# Altium footprint library Connector_Dsub.PcbLib: 104 footprints (part 4 of 7)
Each footprint in its own frame and in the unit in brackets; x right, y up, seen from the top. Pads: shape width x height; smd on the part's side, far side on the other; paste and mask are expansions set on the pad; w line width, h text height; cw(c..) or ccw(c..) is an arc to the next point about the centre after c.
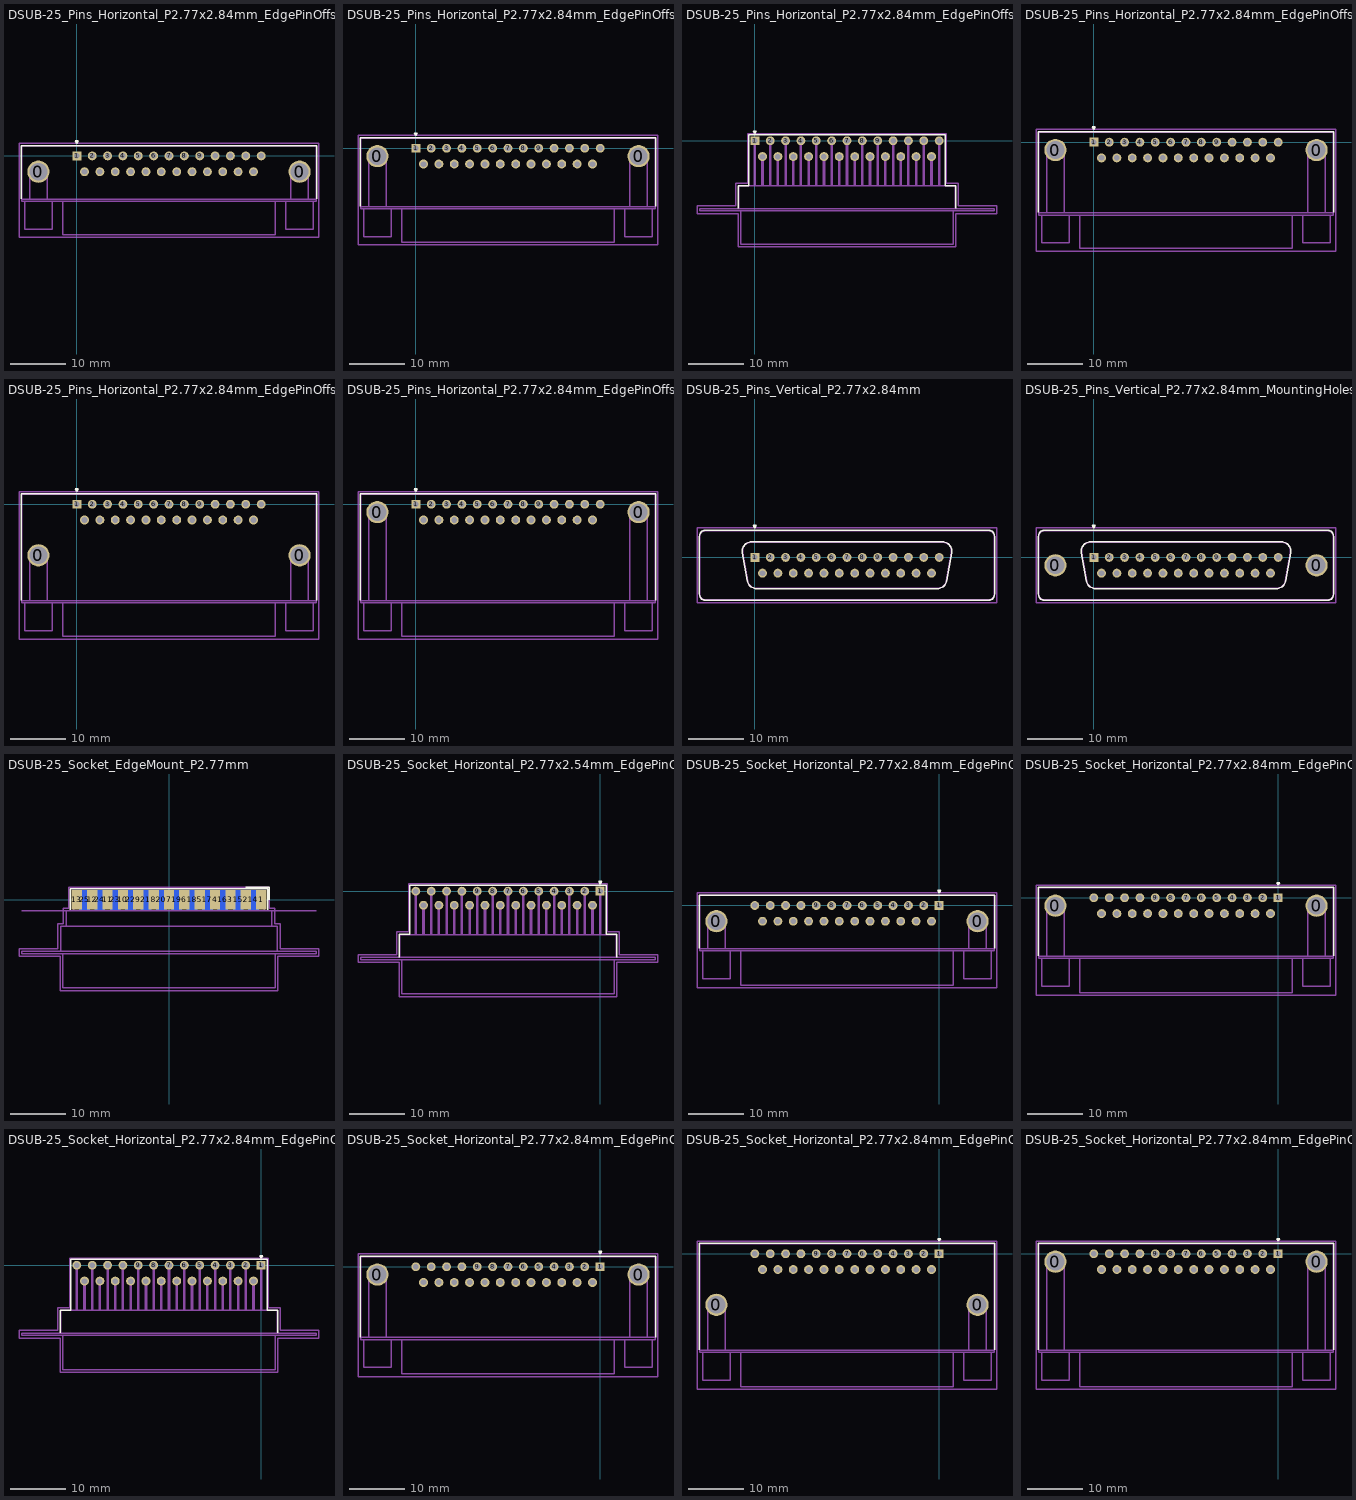
[diagram p3: the footprints below, top view; thin cyan lines are the x and y axes]

## DSUB-25_Pins_Horizontal_P2.77x2.84mm_EdgePinOffset4.94mm_Housed_MountingHolesOffset4.94mm [mm]
pads (27):
  round 4 hole 3.2: 0(-6.93,-2.84) 0(40.17,-2.84)
  rect 1.6x1.6 hole 1: 1(0,0)
  round 1.6 hole 1: 2(2.77,0) 3(5.54,0) 4(8.31,0) 5(11.08,0) 6(13.85,0) 7(16.62,0) 8(19.39,0) 9(22.16,0) 10(24.93,0) 11(27.7,0) 12(30.47,0) 13(33.24,0) 14(1.385,-2.84) 15(4.155,-2.84) 16(6.925,-2.84) 17(9.695,-2.84) 18(12.465,-2.84) 19(15.235,-2.84) 20(18.005,-2.84) 21(20.775,-2.84) 22(23.545,-2.84) 23(26.315,-2.84) 24(29.085,-2.84) 25(31.855,-2.84)
F.SilkS:
  lines w0.254: -9.99,-7.72 -9.99,1.86 43.23,1.86 43.23,-7.72 ; -0.25,2.754 0.25,2.754 0,2.321 -0.25,2.754
F.Fab:
  lines w0.254: -8.53,-7.78 -8.53,-2.84 cw(c-6.93,-2.84) -5.33,-2.84 -5.33,-7.78 ; 38.57,-7.78 38.57,-2.84 cw(c40.17,-2.84) 41.77,-2.84 41.77,-7.78 ; -9.93,-7.78 -9.93,1.8 43.17,1.8 43.17,-7.78 ; -9.93,-7.78 -9.93,-8.18 43.17,-8.18 43.17,-7.78 ; -9.93,-7.78 43.17,-7.78 ; -9.93,-7.78 43.17,-7.78 ; -9.43,-13.18 -9.43,-8.18 -4.43,-8.18 -4.43,-13.18 -9.43,-13.18 ; -2.53,-14.18 -2.53,-8.18 35.77,-8.18 35.77,-14.18 -2.53,-14.18 ; 37.67,-13.18 37.67,-8.18 42.67,-8.18 42.67,-13.18 37.67,-13.18
  text "'.Designator'" at 12.573,-12.02 h1
F.CrtYd:
  lines w0.254: -10.43,-14.68 -10.43,2.31 43.67,2.31 43.67,-14.68 -10.43,-14.68

## DSUB-25_Pins_Horizontal_P2.77x2.84mm_EdgePinOffset7.70mm_Housed_MountingHolesOffset9.12mm [mm]
pads (27):
  round 4 hole 3.2: 0(-6.93,-1.42) 0(40.17,-1.42)
  rect 1.6x1.6 hole 1: 1(0,0)
  round 1.6 hole 1: 2(2.77,0) 3(5.54,0) 4(8.31,0) 5(11.08,0) 6(13.85,0) 7(16.62,0) 8(19.39,0) 9(22.16,0) 10(24.93,0) 11(27.7,0) 12(30.47,0) 13(33.24,0) 14(1.385,-2.84) 15(4.155,-2.84) 16(6.925,-2.84) 17(9.695,-2.84) 18(12.465,-2.84) 19(15.235,-2.84) 20(18.005,-2.84) 21(20.775,-2.84) 22(23.545,-2.84) 23(26.315,-2.84) 24(29.085,-2.84) 25(31.855,-2.84)
F.SilkS:
  lines w0.254: -9.99,-10.48 -9.99,1.86 43.23,1.86 43.23,-10.48 ; -0.25,2.754 0.25,2.754 0,2.321 -0.25,2.754
F.Fab:
  lines w0.254: -8.53,-10.54 -8.53,-1.42 cw(c-6.93,-1.42) -5.33,-1.42 -5.33,-10.54 ; 38.57,-10.54 38.57,-1.42 cw(c40.17,-1.42) 41.77,-1.42 41.77,-10.54 ; -9.93,-10.54 -9.93,1.8 43.17,1.8 43.17,-10.54 ; -9.93,-10.54 -9.93,-10.94 43.17,-10.94 43.17,-10.54 ; -9.93,-10.54 43.17,-10.54 ; -9.93,-10.54 43.17,-10.54 ; -9.43,-15.94 -9.43,-10.94 -4.43,-10.94 -4.43,-15.94 -9.43,-15.94 ; -2.53,-16.94 -2.53,-10.94 35.77,-10.94 35.77,-16.94 -2.53,-16.94 ; 37.67,-15.94 37.67,-10.94 42.67,-10.94 42.67,-15.94 37.67,-15.94
  text "'.Designator'" at 12.573,-14.78 h1
F.CrtYd:
  lines w0.254: -10.43,-17.44 -10.43,2.31 43.67,2.31 43.67,-17.44 -10.43,-17.44

## DSUB-25_Pins_Horizontal_P2.77x2.84mm_EdgePinOffset9.40mm [mm]
pads (25):
  rect 1.6x1.6 hole 1: 1(0,0)
  round 1.6 hole 1: 2(2.77,0) 3(5.54,0) 4(8.31,0) 5(11.08,0) 6(13.85,0) 7(16.62,0) 8(19.39,0) 9(22.16,0) 10(24.93,0) 11(27.7,0) 12(30.47,0) 13(33.24,0) 14(1.385,-2.84) 15(4.155,-2.84) 16(6.925,-2.84) 17(9.695,-2.84) 18(12.465,-2.84) 19(15.235,-2.84) 20(18.005,-2.84) 21(20.775,-2.84) 22(23.545,-2.84) 23(26.315,-2.84) 24(29.085,-2.84) 25(31.855,-2.84)
F.SilkS:
  lines w0.254: -2.99,-12.18 -2.99,-8.08 -1.06,-8.08 -1.06,1.06 34.3,1.06 34.3,-8.08 36.23,-8.08 36.23,-12.18 ; -0.25,1.754 0.25,1.754 0,1.321 -0.25,1.754
F.Fab:
  lines w0.254: -0.1,-8.14 -0.1,0 ; 0,-8.14 0,0 ; 0.1,-8.14 0.1,0 ; 1.285,-8.14 1.285,-2.84 ; 1.385,-8.14 1.385,-2.84 ; 1.485,-8.14 1.485,-2.84 ; 2.67,-8.14 2.67,0 ; 2.77,-8.14 2.77,0 ; 2.87,-8.14 2.87,0 ; 4.055,-8.14 4.055,-2.84 ; 4.155,-8.14 4.155,-2.84 ; 4.255,-8.14 4.255,-2.84 ; 5.44,-8.14 5.44,0 ; 5.54,-8.14 5.54,0 ; 5.64,-8.14 5.64,0 ; 6.825,-8.14 6.825,-2.84 ; 6.925,-8.14 6.925,-2.84 ; 7.025,-8.14 7.025,-2.84 ; 8.21,-8.14 8.21,0 ; 8.31,-8.14 8.31,0 ; 8.41,-8.14 8.41,0 ; 9.595,-8.14 9.595,-2.84 ; 9.695,-8.14 9.695,-2.84 ; 9.795,-8.14 9.795,-2.84 ; 10.98,-8.14 10.98,0 ; 11.08,-8.14 11.08,0 ; 11.18,-8.14 11.18,0 ; 12.365,-8.14 12.365,-2.84 ; 12.465,-8.14 12.465,-2.84 ; 12.565,-8.14 12.565,-2.84 ; 13.75,-8.14 13.75,0 ; 13.85,-8.14 13.85,0 ; 13.95,-8.14 13.95,0 ; 15.135,-8.14 15.135,-2.84 ; 15.235,-8.14 15.235,-2.84 ; 15.335,-8.14 15.335,-2.84 ; 16.52,-8.14 16.52,0 ; 16.62,-8.14 16.62,0 ; 16.72,-8.14 16.72,0 ; 17.905,-8.14 17.905,-2.84 ; 18.005,-8.14 18.005,-2.84 ; 18.105,-8.14 18.105,-2.84 ; 19.29,-8.14 19.29,0 ; 19.39,-8.14 19.39,0 ; 19.49,-8.14 19.49,0 ; 20.675,-8.14 20.675,-2.84 ; 20.775,-8.14 20.775,-2.84 ; 20.875,-8.14 20.875,-2.84 ; 22.06,-8.14 22.06,0 ; 22.16,-8.14 22.16,0 ; 22.26,-8.14 22.26,0 ; 23.445,-8.14 23.445,-2.84 ; 23.545,-8.14 23.545,-2.84 ; 23.645,-8.14 23.645,-2.84 ; 24.83,-8.14 24.83,0 ; 24.93,-8.14 24.93,0 ; 25.03,-8.14 25.03,0 ; 26.215,-8.14 26.215,-2.84 ; 26.315,-8.14 26.315,-2.84 ; 26.415,-8.14 26.415,-2.84 ; 27.6,-8.14 27.6,0 ; 27.7,-8.14 27.7,0 ; 27.8,-8.14 27.8,0 ; 28.985,-8.14 28.985,-2.84 ; 29.085,-8.14 29.085,-2.84 ; 29.185,-8.14 29.185,-2.84 ; 30.37,-8.14 30.37,0 ; 30.47,-8.14 30.47,0 ; 30.57,-8.14 30.57,0 ; 31.755,-8.14 31.755,-2.84 ; 31.855,-8.14 31.855,-2.84 ; 31.955,-8.14 31.955,-2.84 ; 33.14,-8.14 33.14,0 ; 33.24,-8.14 33.24,0 ; 33.34,-8.14 33.34,0 ; -9.93,-12.64 -9.93,-12.24 43.17,-12.24 43.17,-12.64 -9.93,-12.64 ; -2.93,-12.24 -2.93,-8.14 36.17,-8.14 36.17,-12.24 -2.93,-12.24 ; -2.53,-18.64 -2.53,-12.64 35.77,-12.64 35.77,-18.64 -2.53,-18.64
  text "'.Designator'" at 12.573,-16.48 h1
F.CrtYd:
  lines w0.254: -10.43,-13.14 -10.43,-11.74 -3.43,-11.74 -3.43,-7.64 -1.3,-7.64 -1.3,1.31 34.54,1.31 34.54,-7.64 36.67,-7.64 36.67,-11.74 43.67,-11.74 43.67,-13.14 36.27,-13.14 36.27,-19.14 -3.03,-19.14 -3.03,-13.14 -10.43,-13.14

## DSUB-25_Pins_Horizontal_P2.77x2.84mm_EdgePinOffset9.90mm_Housed_MountingHolesOffset11.32mm [mm]
pads (27):
  round 4 hole 3.2: 0(-6.93,-1.42) 0(40.17,-1.42)
  rect 1.6x1.6 hole 1: 1(0,0)
  round 1.6 hole 1: 2(2.77,0) 3(5.54,0) 4(8.31,0) 5(11.08,0) 6(13.85,0) 7(16.62,0) 8(19.39,0) 9(22.16,0) 10(24.93,0) 11(27.7,0) 12(30.47,0) 13(33.24,0) 14(1.385,-2.84) 15(4.155,-2.84) 16(6.925,-2.84) 17(9.695,-2.84) 18(12.465,-2.84) 19(15.235,-2.84) 20(18.005,-2.84) 21(20.775,-2.84) 22(23.545,-2.84) 23(26.315,-2.84) 24(29.085,-2.84) 25(31.855,-2.84)
F.SilkS:
  lines w0.254: -9.99,-12.68 -9.99,1.86 43.23,1.86 43.23,-12.68 ; -0.25,2.754 0.25,2.754 0,2.321 -0.25,2.754
F.Fab:
  lines w0.254: -8.53,-12.74 -8.53,-1.42 cw(c-6.93,-1.42) -5.33,-1.42 -5.33,-12.74 ; 38.57,-12.74 38.57,-1.42 cw(c40.17,-1.42) 41.77,-1.42 41.77,-12.74 ; -9.93,-12.74 -9.93,1.8 43.17,1.8 43.17,-12.74 ; -9.93,-12.74 -9.93,-13.14 43.17,-13.14 43.17,-12.74 ; -9.93,-12.74 43.17,-12.74 ; -9.93,-12.74 43.17,-12.74 ; -9.43,-18.14 -9.43,-13.14 -4.43,-13.14 -4.43,-18.14 -9.43,-18.14 ; -2.53,-19.14 -2.53,-13.14 35.77,-13.14 35.77,-19.14 -2.53,-19.14 ; 37.67,-18.14 37.67,-13.14 42.67,-13.14 42.67,-18.14 37.67,-18.14
  text "'.Designator'" at 12.573,-16.98 h1
F.CrtYd:
  lines w0.254: -10.43,-19.64 -10.43,2.31 43.67,2.31 43.67,-19.64 -10.43,-19.64

## DSUB-25_Pins_Horizontal_P2.77x2.84mm_EdgePinOffset14.56mm_Housed_MountingHolesOffset8.20mm [mm]
pads (27):
  round 4 hole 3.2: 0(-6.93,-9.2) 0(40.17,-9.2)
  rect 1.6x1.6 hole 1: 1(0,0)
  round 1.6 hole 1: 2(2.77,0) 3(5.54,0) 4(8.31,0) 5(11.08,0) 6(13.85,0) 7(16.62,0) 8(19.39,0) 9(22.16,0) 10(24.93,0) 11(27.7,0) 12(30.47,0) 13(33.24,0) 14(1.385,-2.84) 15(4.155,-2.84) 16(6.925,-2.84) 17(9.695,-2.84) 18(12.465,-2.84) 19(15.235,-2.84) 20(18.005,-2.84) 21(20.775,-2.84) 22(23.545,-2.84) 23(26.315,-2.84) 24(29.085,-2.84) 25(31.855,-2.84)
F.SilkS:
  lines w0.254: -9.99,-17.34 -9.99,1.86 43.23,1.86 43.23,-17.34 ; -0.25,2.754 0.25,2.754 0,2.321 -0.25,2.754
F.Fab:
  lines w0.254: -8.53,-17.4 -8.53,-9.2 cw(c-6.93,-9.2) -5.33,-9.2 -5.33,-17.4 ; 38.57,-17.4 38.57,-9.2 cw(c40.17,-9.2) 41.77,-9.2 41.77,-17.4 ; -9.93,-17.4 -9.93,1.8 43.17,1.8 43.17,-17.4 ; -9.93,-17.4 -9.93,-17.8 43.17,-17.8 43.17,-17.4 ; -9.93,-17.4 43.17,-17.4 ; -9.93,-17.4 43.17,-17.4 ; -9.43,-22.8 -9.43,-17.8 -4.43,-17.8 -4.43,-22.8 -9.43,-22.8 ; -2.53,-23.8 -2.53,-17.8 35.77,-17.8 35.77,-23.8 -2.53,-23.8 ; 37.67,-22.8 37.67,-17.8 42.67,-17.8 42.67,-22.8 37.67,-22.8
  text "'.Designator'" at 12.573,-21.64 h1
F.CrtYd:
  lines w0.254: -10.43,-24.3 -10.43,2.3 43.67,2.3 43.67,-24.3 -10.43,-24.3

## DSUB-25_Pins_Horizontal_P2.77x2.84mm_EdgePinOffset14.56mm_Housed_MountingHolesOffset15.98mm [mm]
pads (27):
  round 4 hole 3.2: 0(-6.93,-1.42) 0(40.17,-1.42)
  rect 1.6x1.6 hole 1: 1(0,0)
  round 1.6 hole 1: 2(2.77,0) 3(5.54,0) 4(8.31,0) 5(11.08,0) 6(13.85,0) 7(16.62,0) 8(19.39,0) 9(22.16,0) 10(24.93,0) 11(27.7,0) 12(30.47,0) 13(33.24,0) 14(1.385,-2.84) 15(4.155,-2.84) 16(6.925,-2.84) 17(9.695,-2.84) 18(12.465,-2.84) 19(15.235,-2.84) 20(18.005,-2.84) 21(20.775,-2.84) 22(23.545,-2.84) 23(26.315,-2.84) 24(29.085,-2.84) 25(31.855,-2.84)
F.SilkS:
  lines w0.254: -9.99,-17.34 -9.99,1.86 43.23,1.86 43.23,-17.34 ; -0.25,2.754 0.25,2.754 0,2.321 -0.25,2.754
F.Fab:
  lines w0.254: -8.53,-17.4 -8.53,-1.42 cw(c-6.93,-1.42) -5.33,-1.42 -5.33,-17.4 ; 38.57,-17.4 38.57,-1.42 cw(c40.17,-1.42) 41.77,-1.42 41.77,-17.4 ; -9.93,-17.4 -9.93,1.8 43.17,1.8 43.17,-17.4 ; -9.93,-17.4 -9.93,-17.8 43.17,-17.8 43.17,-17.4 ; -9.93,-17.4 43.17,-17.4 ; -9.93,-17.4 43.17,-17.4 ; -9.43,-22.8 -9.43,-17.8 -4.43,-17.8 -4.43,-22.8 -9.43,-22.8 ; -2.53,-23.8 -2.53,-17.8 35.77,-17.8 35.77,-23.8 -2.53,-23.8 ; 37.67,-22.8 37.67,-17.8 42.67,-17.8 42.67,-22.8 37.67,-22.8
  text "'.Designator'" at 12.573,-21.64 h1
F.CrtYd:
  lines w0.254: -10.43,-24.3 -10.43,2.3 43.67,2.3 43.67,-24.3 -10.43,-24.3

## DSUB-25_Pins_Vertical_P2.77x2.84mm [mm]
pads (25):
  rect 1.6x1.6 hole 1: 1(0,0)
  round 1.6 hole 1: 2(2.77,0) 3(5.54,0) 4(8.31,0) 5(11.08,0) 6(13.85,0) 7(16.62,0) 8(19.39,0) 9(22.16,0) 10(24.93,0) 11(27.7,0) 12(30.47,0) 13(33.24,0) 14(1.385,-2.84) 15(4.155,-2.84) 16(6.925,-2.84) 17(9.695,-2.84) 18(12.465,-2.84) 19(15.235,-2.84) 20(18.005,-2.84) 21(20.775,-2.84) 22(23.545,-2.84) 23(26.315,-2.84) 24(29.085,-2.84) 25(31.855,-2.84)
F.SilkS:
  lines w0.254: -9.99,-6.67 -9.99,3.83 cw(c-8.93,3.83) -8.93,4.89 42.17,4.89 cw(c42.17,3.83) 43.23,3.83 43.23,-6.67 cw(c42.17,-6.67) 42.17,-7.73 -8.93,-7.73 cw(c-8.93,-6.67) -9.99,-6.67 ; -2.246,0.842 -1.347,-4.258 ccw(c0.288,-3.97) 0.288,-5.63 32.952,-5.63 ccw(c32.952,-3.97) 34.587,-4.258 35.486,0.842 ccw(c33.852,1.13) 33.852,2.79 -0.612,2.79 ccw(c-0.612,1.13) -2.246,0.842 ; -0.25,5.784 0.25,5.784 0,5.351 -0.25,5.784
F.Fab:
  lines w0.254: -9.93,-6.67 -9.93,3.83 cw(c-8.93,3.83) -8.93,4.83 42.17,4.83 cw(c42.17,3.83) 43.17,3.83 43.17,-6.67 cw(c42.17,-6.67) 42.17,-7.67 -8.93,-7.67 cw(c-8.93,-6.67) -9.93,-6.67 ; -2.199,0.852 -1.3,-4.248 ccw(c0.276,-3.97) 0.276,-5.57 32.964,-5.57 ccw(c32.964,-3.97) 34.54,-4.248 35.439,0.852 ccw(c33.863,1.13) 33.863,2.73 -0.623,2.73 ccw(c-0.623,1.13) -2.199,0.852
  text "'.Designator'" at 12.573,-2.26 h1
F.CrtYd:
  lines w0.254: -10.43,-8.17 -10.43,5.33 43.67,5.33 43.67,-8.17 -10.43,-8.17

## DSUB-25_Pins_Vertical_P2.77x2.84mm_MountingHoles [mm]
pads (27):
  round 4 hole 3.2: 0(-6.93,-1.42) 0(40.17,-1.42)
  rect 1.6x1.6 hole 1: 1(0,0)
  round 1.6 hole 1: 2(2.77,0) 3(5.54,0) 4(8.31,0) 5(11.08,0) 6(13.85,0) 7(16.62,0) 8(19.39,0) 9(22.16,0) 10(24.93,0) 11(27.7,0) 12(30.47,0) 13(33.24,0) 14(1.385,-2.84) 15(4.155,-2.84) 16(6.925,-2.84) 17(9.695,-2.84) 18(12.465,-2.84) 19(15.235,-2.84) 20(18.005,-2.84) 21(20.775,-2.84) 22(23.545,-2.84) 23(26.315,-2.84) 24(29.085,-2.84) 25(31.855,-2.84)
F.SilkS:
  lines w0.254: -9.99,-6.67 -9.99,3.83 cw(c-8.93,3.83) -8.93,4.89 42.17,4.89 cw(c42.17,3.83) 43.23,3.83 43.23,-6.67 cw(c42.17,-6.67) 42.17,-7.73 -8.93,-7.73 cw(c-8.93,-6.67) -9.99,-6.67 ; -2.246,0.842 -1.347,-4.258 ccw(c0.288,-3.97) 0.288,-5.63 32.952,-5.63 ccw(c32.952,-3.97) 34.587,-4.258 35.486,0.842 ccw(c33.852,1.13) 33.852,2.79 -0.612,2.79 ccw(c-0.612,1.13) -2.246,0.842 ; -0.25,5.784 0.25,5.784 0,5.351 -0.25,5.784
F.Fab:
  lines w0.254: -9.93,-6.67 -9.93,3.83 cw(c-8.93,3.83) -8.93,4.83 42.17,4.83 cw(c42.17,3.83) 43.17,3.83 43.17,-6.67 cw(c42.17,-6.67) 42.17,-7.67 -8.93,-7.67 cw(c-8.93,-6.67) -9.93,-6.67 ; -2.199,0.852 -1.3,-4.248 ccw(c0.276,-3.97) 0.276,-5.57 32.964,-5.57 ccw(c32.964,-3.97) 34.54,-4.248 35.439,0.852 ccw(c33.863,1.13) 33.863,2.73 -0.623,2.73 ccw(c-0.623,1.13) -2.199,0.852
  text "'.Designator'" at 12.573,-2.26 h1
F.CrtYd:
  lines w0.254: -10.43,-8.17 -10.43,5.33 43.67,5.33 43.67,-8.17 -10.43,-8.17

## DSUB-25_Socket_EdgeMount_P2.77mm [mm]
pads (25):
  rect 1.847x3.48 smd: 1(16.62,0) 2(13.85,0) 3(11.08,0) 4(8.31,0) 5(5.54,0) 6(2.77,0) 7(0,0) 8(-2.77,0) 9(-5.54,0) 10(-8.31,0) 11(-11.08,0) 12(-13.85,0) 13(-16.62,0)
  rect 1.847x3.48 smd far side: 14(15.235,0) 15(12.465,0) 16(9.695,0) 17(6.925,0) 18(4.155,0) 19(1.385,0) 20(-1.385,0) 21(-4.155,0) 22(-6.925,0) 23(-9.695,0) 24(-12.465,0) 25(-15.235,0)
F.SilkS:
  lines w0.254: -17.803,-1.74 -17.803,2 17.803,2 17.803,-1.74 ; 13.85,2.24 18.043,2.24 18.043,0
F.Fab:
  lines w0.254: -26.55,-9.69 -26.55,-9.29 26.55,-9.29 26.55,-9.69 -26.55,-9.69 ; -19.55,-9.29 -19.55,-4.79 19.55,-4.79 19.55,-9.29 -19.55,-9.29 ; -19.15,-15.86 -19.15,-9.69 19.15,-9.69 19.15,-15.86 -19.15,-15.86 ; -18.55,-4.79 -18.55,-1.99 18.55,-1.99 18.55,-4.79 -18.55,-4.79 ; -17.22,-1.99 -17.22,0.91 -16.02,0.91 -16.02,-1.99 -17.22,-1.99 ; -14.45,-1.99 -14.45,0.91 -13.25,0.91 -13.25,-1.99 -14.45,-1.99 ; -11.68,-1.99 -11.68,0.91 -10.48,0.91 -10.48,-1.99 -11.68,-1.99 ; -8.91,-1.99 -8.91,0.91 -7.71,0.91 -7.71,-1.99 -8.91,-1.99 ; -6.14,-1.99 -6.14,0.91 -4.94,0.91 -4.94,-1.99 -6.14,-1.99 ; -3.37,-1.99 -3.37,0.91 -2.17,0.91 -2.17,-1.99 -3.37,-1.99 ; -0.6,-1.99 -0.6,0.91 0.6,0.91 0.6,-1.99 -0.6,-1.99 ; 2.17,-1.99 2.17,0.91 3.37,0.91 3.37,-1.99 2.17,-1.99 ; 4.94,-1.99 4.94,0.91 6.14,0.91 6.14,-1.99 4.94,-1.99 ; 7.71,-1.99 7.71,0.91 8.91,0.91 8.91,-1.99 7.71,-1.99 ; 10.48,-1.99 10.48,0.91 11.68,0.91 11.68,-1.99 10.48,-1.99 ; 13.25,-1.99 13.25,0.91 14.45,0.91 14.45,-1.99 13.25,-1.99 ; 16.02,-1.99 16.02,0.91 17.22,0.91 17.22,-1.99 16.02,-1.99
  text "'.Designator'" at -4.047,-4.23 h1
B.Fab:
  lines w0.254: -15.835,-1.99 -15.835,0.91 -14.635,0.91 -14.635,-1.99 -15.835,-1.99 ; -13.065,-1.99 -13.065,0.91 -11.865,0.91 -11.865,-1.99 -13.065,-1.99 ; -10.295,-1.99 -10.295,0.91 -9.095,0.91 -9.095,-1.99 -10.295,-1.99 ; -7.525,-1.99 -7.525,0.91 -6.325,0.91 -6.325,-1.99 -7.525,-1.99 ; -4.755,-1.99 -4.755,0.91 -3.555,0.91 -3.555,-1.99 -4.755,-1.99 ; -1.985,-1.99 -1.985,0.91 -0.785,0.91 -0.785,-1.99 -1.985,-1.99 ; 0.785,-1.99 0.785,0.91 1.985,0.91 1.985,-1.99 0.785,-1.99 ; 3.555,-1.99 3.555,0.91 4.755,0.91 4.755,-1.99 3.555,-1.99 ; 6.325,-1.99 6.325,0.91 7.525,0.91 7.525,-1.99 6.325,-1.99 ; 9.095,-1.99 9.095,0.91 10.295,0.91 10.295,-1.99 9.095,-1.99 ; 11.865,-1.99 11.865,0.91 13.065,0.91 13.065,-1.99 11.865,-1.99 ; 14.635,-1.99 14.635,0.91 15.835,0.91 15.835,-1.99 14.635,-1.99
F.CrtYd:
  lines w0.254: -27.05,-10.19 -27.05,-8.79 -20.05,-8.79 -20.05,-4.29 -19.05,-4.29 -19.05,-1.49 -18.05,-1.49 -18.05,2.25 18.05,2.25 18.05,-1.49 19.05,-1.49 19.05,-4.29 20.05,-4.29 20.05,-8.79 27.05,-8.79 27.05,-10.19 19.65,-10.19 19.65,-16.36 -19.65,-16.36 -19.65,-10.19 -27.05,-10.19
Dwgs.User:
  lines w0.254: -26.55,-1.99 26.55,-1.99
  text "PCB edge" at -23.273,-1.732 h0.5

## DSUB-25_Socket_Horizontal_P2.77x2.54mm_EdgePinOffset9.40mm [mm]
pads (25):
  rect 1.6x1.6 hole 1: 1(0,0)
  round 1.6 hole 1: 2(-2.77,0) 3(-5.54,0) 4(-8.31,0) 5(-11.08,0) 6(-13.85,0) 7(-16.62,0) 8(-19.39,0) 9(-22.16,0) 10(-24.93,0) 11(-27.7,0) 12(-30.47,0) 13(-33.24,0) 14(-1.385,-2.54) 15(-4.155,-2.54) 16(-6.925,-2.54) 17(-9.695,-2.54) 18(-12.465,-2.54) 19(-15.235,-2.54) 20(-18.005,-2.54) 21(-20.775,-2.54) 22(-23.545,-2.54) 23(-26.315,-2.54) 24(-29.085,-2.54) 25(-31.855,-2.54)
F.SilkS:
  lines w0.254: -36.23,-11.88 -36.23,-7.78 -34.3,-7.78 -34.3,1.06 1.06,1.06 1.06,-7.78 2.99,-7.78 2.99,-11.88 ; -0.25,1.754 0.25,1.754 0,1.321 -0.25,1.754
F.Fab:
  lines w0.254: -33.34,-7.84 -33.34,0 ; -33.24,-7.84 -33.24,0 ; -33.14,-7.84 -33.14,0 ; -31.955,-7.84 -31.955,-2.54 ; -31.855,-7.84 -31.855,-2.54 ; -31.755,-7.84 -31.755,-2.54 ; -30.57,-7.84 -30.57,0 ; -30.47,-7.84 -30.47,0 ; -30.37,-7.84 -30.37,0 ; -29.185,-7.84 -29.185,-2.54 ; -29.085,-7.84 -29.085,-2.54 ; -28.985,-7.84 -28.985,-2.54 ; -27.8,-7.84 -27.8,0 ; -27.7,-7.84 -27.7,0 ; -27.6,-7.84 -27.6,0 ; -26.415,-7.84 -26.415,-2.54 ; -26.315,-7.84 -26.315,-2.54 ; -26.215,-7.84 -26.215,-2.54 ; -25.03,-7.84 -25.03,0 ; -24.93,-7.84 -24.93,0 ; -24.83,-7.84 -24.83,0 ; -23.645,-7.84 -23.645,-2.54 ; -23.545,-7.84 -23.545,-2.54 ; -23.445,-7.84 -23.445,-2.54 ; -22.26,-7.84 -22.26,0 ; -22.16,-7.84 -22.16,0 ; -22.06,-7.84 -22.06,0 ; -20.875,-7.84 -20.875,-2.54 ; -20.775,-7.84 -20.775,-2.54 ; -20.675,-7.84 -20.675,-2.54 ; -19.49,-7.84 -19.49,0 ; -19.39,-7.84 -19.39,0 ; -19.29,-7.84 -19.29,0 ; -18.105,-7.84 -18.105,-2.54 ; -18.005,-7.84 -18.005,-2.54 ; -17.905,-7.84 -17.905,-2.54 ; -16.72,-7.84 -16.72,0 ; -16.62,-7.84 -16.62,0 ; -16.52,-7.84 -16.52,0 ; -15.335,-7.84 -15.335,-2.54 ; -15.235,-7.84 -15.235,-2.54 ; -15.135,-7.84 -15.135,-2.54 ; -13.95,-7.84 -13.95,0 ; -13.85,-7.84 -13.85,0 ; -13.75,-7.84 -13.75,0 ; -12.565,-7.84 -12.565,-2.54 ; -12.465,-7.84 -12.465,-2.54 ; -12.365,-7.84 -12.365,-2.54 ; -11.18,-7.84 -11.18,0 ; -11.08,-7.84 -11.08,0 ; -10.98,-7.84 -10.98,0 ; -9.795,-7.84 -9.795,-2.54 ; -9.695,-7.84 -9.695,-2.54 ; -9.595,-7.84 -9.595,-2.54 ; -8.41,-7.84 -8.41,0 ; -8.31,-7.84 -8.31,0 ; -8.21,-7.84 -8.21,0 ; -7.025,-7.84 -7.025,-2.54 ; -6.925,-7.84 -6.925,-2.54 ; -6.825,-7.84 -6.825,-2.54 ; -5.64,-7.84 -5.64,0 ; -5.54,-7.84 -5.54,0 ; -5.44,-7.84 -5.44,0 ; -4.255,-7.84 -4.255,-2.54 ; -4.155,-7.84 -4.155,-2.54 ; -4.055,-7.84 -4.055,-2.54 ; -2.87,-7.84 -2.87,0 ; -2.77,-7.84 -2.77,0 ; -2.67,-7.84 -2.67,0 ; -1.485,-7.84 -1.485,-2.54 ; -1.385,-7.84 -1.385,-2.54 ; -1.285,-7.84 -1.285,-2.54 ; -0.1,-7.84 -0.1,0 ; 0,-7.84 0,0 ; 0.1,-7.84 0.1,0 ; -43.17,-12.34 -43.17,-11.94 9.93,-11.94 9.93,-12.34 -43.17,-12.34 ; -36.17,-11.94 -36.17,-7.84 2.93,-7.84 2.93,-11.94 -36.17,-11.94 ; -35.77,-18.51 -35.77,-12.34 2.53,-12.34 2.53,-18.51 -35.77,-18.51
  text "'.Designator'" at -20.667,-16.265 h1
F.CrtYd:
  lines w0.254: -43.67,-12.84 -43.67,-11.44 -36.67,-11.44 -36.67,-7.34 -34.54,-7.34 -34.54,1.31 1.3,1.31 1.3,-7.34 3.43,-7.34 3.43,-11.44 10.43,-11.44 10.43,-12.84 3.03,-12.84 3.03,-19.01 -36.27,-19.01 -36.27,-12.84 -43.67,-12.84

## DSUB-25_Socket_Horizontal_P2.77x2.84mm_EdgePinOffset4.94mm_Housed_MountingHolesOffset4.94mm [mm]
pads (27):
  round 4 hole 3.2: 0(-40.17,-2.84) 0(6.93,-2.84)
  rect 1.6x1.6 hole 1: 1(0,0)
  round 1.6 hole 1: 2(-2.77,0) 3(-5.54,0) 4(-8.31,0) 5(-11.08,0) 6(-13.85,0) 7(-16.62,0) 8(-19.39,0) 9(-22.16,0) 10(-24.93,0) 11(-27.7,0) 12(-30.47,0) 13(-33.24,0) 14(-1.385,-2.84) 15(-4.155,-2.84) 16(-6.925,-2.84) 17(-9.695,-2.84) 18(-12.465,-2.84) 19(-15.235,-2.84) 20(-18.005,-2.84) 21(-20.775,-2.84) 22(-23.545,-2.84) 23(-26.315,-2.84) 24(-29.085,-2.84) 25(-31.855,-2.84)
F.SilkS:
  lines w0.254: -43.23,-7.72 -43.23,1.86 9.99,1.86 9.99,-7.72 ; -0.25,2.754 0.25,2.754 0,2.321 -0.25,2.754
F.Fab:
  lines w0.254: -41.77,-7.78 -41.77,-2.84 cw(c-40.17,-2.84) -38.57,-2.84 -38.57,-7.78 ; 5.33,-7.78 5.33,-2.84 cw(c6.93,-2.84) 8.53,-2.84 8.53,-7.78 ; -43.17,-7.78 -43.17,1.8 9.93,1.8 9.93,-7.78 ; -43.17,-7.78 -43.17,-8.18 9.93,-8.18 9.93,-7.78 ; -43.17,-7.78 9.93,-7.78 ; -43.17,-7.78 9.93,-7.78 ; -42.67,-13.18 -42.67,-8.18 -37.67,-8.18 -37.67,-13.18 -42.67,-13.18 ; -35.77,-14.35 -35.77,-8.18 2.53,-8.18 2.53,-14.35 -35.77,-14.35 ; 4.43,-13.18 4.43,-8.18 9.43,-8.18 9.43,-13.18 4.43,-13.18
  text "'.Designator'" at -20.667,-12.105 h1
F.CrtYd:
  lines w0.254: -43.67,-14.85 -43.67,2.31 10.43,2.31 10.43,-14.85 -43.67,-14.85

## DSUB-25_Socket_Horizontal_P2.77x2.84mm_EdgePinOffset7.70mm_Housed_MountingHolesOffset9.12mm [mm]
pads (27):
  round 4 hole 3.2: 0(-40.17,-1.42) 0(6.93,-1.42)
  rect 1.6x1.6 hole 1: 1(0,0)
  round 1.6 hole 1: 2(-2.77,0) 3(-5.54,0) 4(-8.31,0) 5(-11.08,0) 6(-13.85,0) 7(-16.62,0) 8(-19.39,0) 9(-22.16,0) 10(-24.93,0) 11(-27.7,0) 12(-30.47,0) 13(-33.24,0) 14(-1.385,-2.84) 15(-4.155,-2.84) 16(-6.925,-2.84) 17(-9.695,-2.84) 18(-12.465,-2.84) 19(-15.235,-2.84) 20(-18.005,-2.84) 21(-20.775,-2.84) 22(-23.545,-2.84) 23(-26.315,-2.84) 24(-29.085,-2.84) 25(-31.855,-2.84)
F.SilkS:
  lines w0.254: -43.23,-10.48 -43.23,1.86 9.99,1.86 9.99,-10.48 ; -0.25,2.754 0.25,2.754 0,2.321 -0.25,2.754
F.Fab:
  lines w0.254: -41.77,-10.54 -41.77,-1.42 cw(c-40.17,-1.42) -38.57,-1.42 -38.57,-10.54 ; 5.33,-10.54 5.33,-1.42 cw(c6.93,-1.42) 8.53,-1.42 8.53,-10.54 ; -43.17,-10.54 -43.17,1.8 9.93,1.8 9.93,-10.54 ; -43.17,-10.54 -43.17,-10.94 9.93,-10.94 9.93,-10.54 ; -43.17,-10.54 9.93,-10.54 ; -43.17,-10.54 9.93,-10.54 ; -42.67,-15.94 -42.67,-10.94 -37.67,-10.94 -37.67,-15.94 -42.67,-15.94 ; -35.77,-17.11 -35.77,-10.94 2.53,-10.94 2.53,-17.11 -35.77,-17.11 ; 4.43,-15.94 4.43,-10.94 9.43,-10.94 9.43,-15.94 4.43,-15.94
  text "'.Designator'" at -20.667,-14.865 h1
F.CrtYd:
  lines w0.254: -43.67,-17.61 -43.67,2.31 10.43,2.31 10.43,-17.61 -43.67,-17.61

## DSUB-25_Socket_Horizontal_P2.77x2.84mm_EdgePinOffset9.40mm [mm]
pads (25):
  rect 1.6x1.6 hole 1: 1(0,0)
  round 1.6 hole 1: 2(-2.77,0) 3(-5.54,0) 4(-8.31,0) 5(-11.08,0) 6(-13.85,0) 7(-16.62,0) 8(-19.39,0) 9(-22.16,0) 10(-24.93,0) 11(-27.7,0) 12(-30.47,0) 13(-33.24,0) 14(-1.385,-2.84) 15(-4.155,-2.84) 16(-6.925,-2.84) 17(-9.695,-2.84) 18(-12.465,-2.84) 19(-15.235,-2.84) 20(-18.005,-2.84) 21(-20.775,-2.84) 22(-23.545,-2.84) 23(-26.315,-2.84) 24(-29.085,-2.84) 25(-31.855,-2.84)
F.SilkS:
  lines w0.254: -36.23,-12.18 -36.23,-8.08 -34.3,-8.08 -34.3,1.06 1.06,1.06 1.06,-8.08 2.99,-8.08 2.99,-12.18 ; -0.25,1.754 0.25,1.754 0,1.321 -0.25,1.754
F.Fab:
  lines w0.254: -33.34,-8.14 -33.34,0 ; -33.24,-8.14 -33.24,0 ; -33.14,-8.14 -33.14,0 ; -31.955,-8.14 -31.955,-2.84 ; -31.855,-8.14 -31.855,-2.84 ; -31.755,-8.14 -31.755,-2.84 ; -30.57,-8.14 -30.57,0 ; -30.47,-8.14 -30.47,0 ; -30.37,-8.14 -30.37,0 ; -29.185,-8.14 -29.185,-2.84 ; -29.085,-8.14 -29.085,-2.84 ; -28.985,-8.14 -28.985,-2.84 ; -27.8,-8.14 -27.8,0 ; -27.7,-8.14 -27.7,0 ; -27.6,-8.14 -27.6,0 ; -26.415,-8.14 -26.415,-2.84 ; -26.315,-8.14 -26.315,-2.84 ; -26.215,-8.14 -26.215,-2.84 ; -25.03,-8.14 -25.03,0 ; -24.93,-8.14 -24.93,0 ; -24.83,-8.14 -24.83,0 ; -23.645,-8.14 -23.645,-2.84 ; -23.545,-8.14 -23.545,-2.84 ; -23.445,-8.14 -23.445,-2.84 ; -22.26,-8.14 -22.26,0 ; -22.16,-8.14 -22.16,0 ; -22.06,-8.14 -22.06,0 ; -20.875,-8.14 -20.875,-2.84 ; -20.775,-8.14 -20.775,-2.84 ; -20.675,-8.14 -20.675,-2.84 ; -19.49,-8.14 -19.49,0 ; -19.39,-8.14 -19.39,0 ; -19.29,-8.14 -19.29,0 ; -18.105,-8.14 -18.105,-2.84 ; -18.005,-8.14 -18.005,-2.84 ; -17.905,-8.14 -17.905,-2.84 ; -16.72,-8.14 -16.72,0 ; -16.62,-8.14 -16.62,0 ; -16.52,-8.14 -16.52,0 ; -15.335,-8.14 -15.335,-2.84 ; -15.235,-8.14 -15.235,-2.84 ; -15.135,-8.14 -15.135,-2.84 ; -13.95,-8.14 -13.95,0 ; -13.85,-8.14 -13.85,0 ; -13.75,-8.14 -13.75,0 ; -12.565,-8.14 -12.565,-2.84 ; -12.465,-8.14 -12.465,-2.84 ; -12.365,-8.14 -12.365,-2.84 ; -11.18,-8.14 -11.18,0 ; -11.08,-8.14 -11.08,0 ; -10.98,-8.14 -10.98,0 ; -9.795,-8.14 -9.795,-2.84 ; -9.695,-8.14 -9.695,-2.84 ; -9.595,-8.14 -9.595,-2.84 ; -8.41,-8.14 -8.41,0 ; -8.31,-8.14 -8.31,0 ; -8.21,-8.14 -8.21,0 ; -7.025,-8.14 -7.025,-2.84 ; -6.925,-8.14 -6.925,-2.84 ; -6.825,-8.14 -6.825,-2.84 ; -5.64,-8.14 -5.64,0 ; -5.54,-8.14 -5.54,0 ; -5.44,-8.14 -5.44,0 ; -4.255,-8.14 -4.255,-2.84 ; -4.155,-8.14 -4.155,-2.84 ; -4.055,-8.14 -4.055,-2.84 ; -2.87,-8.14 -2.87,0 ; -2.77,-8.14 -2.77,0 ; -2.67,-8.14 -2.67,0 ; -1.485,-8.14 -1.485,-2.84 ; -1.385,-8.14 -1.385,-2.84 ; -1.285,-8.14 -1.285,-2.84 ; -0.1,-8.14 -0.1,0 ; 0,-8.14 0,0 ; 0.1,-8.14 0.1,0 ; -43.17,-12.64 -43.17,-12.24 9.93,-12.24 9.93,-12.64 -43.17,-12.64 ; -36.17,-12.24 -36.17,-8.14 2.93,-8.14 2.93,-12.24 -36.17,-12.24 ; -35.77,-18.81 -35.77,-12.64 2.53,-12.64 2.53,-18.81 -35.77,-18.81
  text "'.Designator'" at -20.667,-16.565 h1
F.CrtYd:
  lines w0.254: -43.67,-13.14 -43.67,-11.74 -36.67,-11.74 -36.67,-7.64 -34.54,-7.64 -34.54,1.31 1.3,1.31 1.3,-7.64 3.43,-7.64 3.43,-11.74 10.43,-11.74 10.43,-13.14 3.03,-13.14 3.03,-19.32 -36.27,-19.32 -36.27,-13.14 -43.67,-13.14

## DSUB-25_Socket_Horizontal_P2.77x2.84mm_EdgePinOffset9.90mm_Housed_MountingHolesOffset11.32mm [mm]
pads (27):
  round 4 hole 3.2: 0(-40.17,-1.42) 0(6.93,-1.42)
  rect 1.6x1.6 hole 1: 1(0,0)
  round 1.6 hole 1: 2(-2.77,0) 3(-5.54,0) 4(-8.31,0) 5(-11.08,0) 6(-13.85,0) 7(-16.62,0) 8(-19.39,0) 9(-22.16,0) 10(-24.93,0) 11(-27.7,0) 12(-30.47,0) 13(-33.24,0) 14(-1.385,-2.84) 15(-4.155,-2.84) 16(-6.925,-2.84) 17(-9.695,-2.84) 18(-12.465,-2.84) 19(-15.235,-2.84) 20(-18.005,-2.84) 21(-20.775,-2.84) 22(-23.545,-2.84) 23(-26.315,-2.84) 24(-29.085,-2.84) 25(-31.855,-2.84)
F.SilkS:
  lines w0.254: -43.23,-12.68 -43.23,1.86 9.99,1.86 9.99,-12.68 ; -0.25,2.754 0.25,2.754 0,2.321 -0.25,2.754
F.Fab:
  lines w0.254: -41.77,-12.74 -41.77,-1.42 cw(c-40.17,-1.42) -38.57,-1.42 -38.57,-12.74 ; 5.33,-12.74 5.33,-1.42 cw(c6.93,-1.42) 8.53,-1.42 8.53,-12.74 ; -43.17,-12.74 -43.17,1.8 9.93,1.8 9.93,-12.74 ; -43.17,-12.74 -43.17,-13.14 9.93,-13.14 9.93,-12.74 ; -43.17,-12.74 9.93,-12.74 ; -43.17,-12.74 9.93,-12.74 ; -42.67,-18.14 -42.67,-13.14 -37.67,-13.14 -37.67,-18.14 -42.67,-18.14 ; -35.77,-19.31 -35.77,-13.14 2.53,-13.14 2.53,-19.31 -35.77,-19.31 ; 4.43,-18.14 4.43,-13.14 9.43,-13.14 9.43,-18.14 4.43,-18.14
  text "'.Designator'" at -20.667,-17.065 h1
F.CrtYd:
  lines w0.254: -43.67,-19.81 -43.67,2.31 10.43,2.31 10.43,-19.81 -43.67,-19.81

## DSUB-25_Socket_Horizontal_P2.77x2.84mm_EdgePinOffset14.56mm_Housed_MountingHolesOffset8.20mm [mm]
pads (27):
  round 4 hole 3.2: 0(-40.17,-9.2) 0(6.93,-9.2)
  rect 1.6x1.6 hole 1: 1(0,0)
  round 1.6 hole 1: 2(-2.77,0) 3(-5.54,0) 4(-8.31,0) 5(-11.08,0) 6(-13.85,0) 7(-16.62,0) 8(-19.39,0) 9(-22.16,0) 10(-24.93,0) 11(-27.7,0) 12(-30.47,0) 13(-33.24,0) 14(-1.385,-2.84) 15(-4.155,-2.84) 16(-6.925,-2.84) 17(-9.695,-2.84) 18(-12.465,-2.84) 19(-15.235,-2.84) 20(-18.005,-2.84) 21(-20.775,-2.84) 22(-23.545,-2.84) 23(-26.315,-2.84) 24(-29.085,-2.84) 25(-31.855,-2.84)
F.SilkS:
  lines w0.254: -43.23,-17.34 -43.23,1.86 9.99,1.86 9.99,-17.34 ; -0.25,2.754 0.25,2.754 0,2.321 -0.25,2.754
F.Fab:
  lines w0.254: -41.77,-17.4 -41.77,-9.2 cw(c-40.17,-9.2) -38.57,-9.2 -38.57,-17.4 ; 5.33,-17.4 5.33,-9.2 cw(c6.93,-9.2) 8.53,-9.2 8.53,-17.4 ; -43.17,-17.4 -43.17,1.8 9.93,1.8 9.93,-17.4 ; -43.17,-17.4 -43.17,-17.8 9.93,-17.8 9.93,-17.4 ; -43.17,-17.4 9.93,-17.4 ; -43.17,-17.4 9.93,-17.4 ; -42.67,-22.8 -42.67,-17.8 -37.67,-17.8 -37.67,-22.8 -42.67,-22.8 ; -35.77,-23.97 -35.77,-17.8 2.53,-17.8 2.53,-23.97 -35.77,-23.97 ; 4.43,-22.8 4.43,-17.8 9.43,-17.8 9.43,-22.8 4.43,-22.8
  text "'.Designator'" at -20.667,-21.725 h1
F.CrtYd:
  lines w0.254: -43.67,-24.47 -43.67,2.3 10.43,2.3 10.43,-24.47 -43.67,-24.47

## DSUB-25_Socket_Horizontal_P2.77x2.84mm_EdgePinOffset14.56mm_Housed_MountingHolesOffset15.98mm [mm]
pads (27):
  round 4 hole 3.2: 0(-40.17,-1.42) 0(6.93,-1.42)
  rect 1.6x1.6 hole 1: 1(0,0)
  round 1.6 hole 1: 2(-2.77,0) 3(-5.54,0) 4(-8.31,0) 5(-11.08,0) 6(-13.85,0) 7(-16.62,0) 8(-19.39,0) 9(-22.16,0) 10(-24.93,0) 11(-27.7,0) 12(-30.47,0) 13(-33.24,0) 14(-1.385,-2.84) 15(-4.155,-2.84) 16(-6.925,-2.84) 17(-9.695,-2.84) 18(-12.465,-2.84) 19(-15.235,-2.84) 20(-18.005,-2.84) 21(-20.775,-2.84) 22(-23.545,-2.84) 23(-26.315,-2.84) 24(-29.085,-2.84) 25(-31.855,-2.84)
F.SilkS:
  lines w0.254: -43.23,-17.34 -43.23,1.86 9.99,1.86 9.99,-17.34 ; -0.25,2.754 0.25,2.754 0,2.321 -0.25,2.754
F.Fab:
  lines w0.254: -41.77,-17.4 -41.77,-1.42 cw(c-40.17,-1.42) -38.57,-1.42 -38.57,-17.4 ; 5.33,-17.4 5.33,-1.42 cw(c6.93,-1.42) 8.53,-1.42 8.53,-17.4 ; -43.17,-17.4 -43.17,1.8 9.93,1.8 9.93,-17.4 ; -43.17,-17.4 -43.17,-17.8 9.93,-17.8 9.93,-17.4 ; -43.17,-17.4 9.93,-17.4 ; -43.17,-17.4 9.93,-17.4 ; -42.67,-22.8 -42.67,-17.8 -37.67,-17.8 -37.67,-22.8 -42.67,-22.8 ; -35.77,-23.97 -35.77,-17.8 2.53,-17.8 2.53,-23.97 -35.77,-23.97 ; 4.43,-22.8 4.43,-17.8 9.43,-17.8 9.43,-22.8 4.43,-22.8
  text "'.Designator'" at -20.667,-21.725 h1
F.CrtYd:
  lines w0.254: -43.67,-24.47 -43.67,2.3 10.43,2.3 10.43,-24.47 -43.67,-24.47